# Altium footprint library Optoelectronics.PcbLib: 52 footprints (part 2 of 4)
Each footprint in its own frame and in the unit in brackets; x right, y up, seen from the top. Pads: shape width x height; smd on the part's side, far side on the other; paste and mask are expansions set on the pad; w line width, h text height; cw(c..) or ccw(c..) is an arc to the next point about the centre after c.
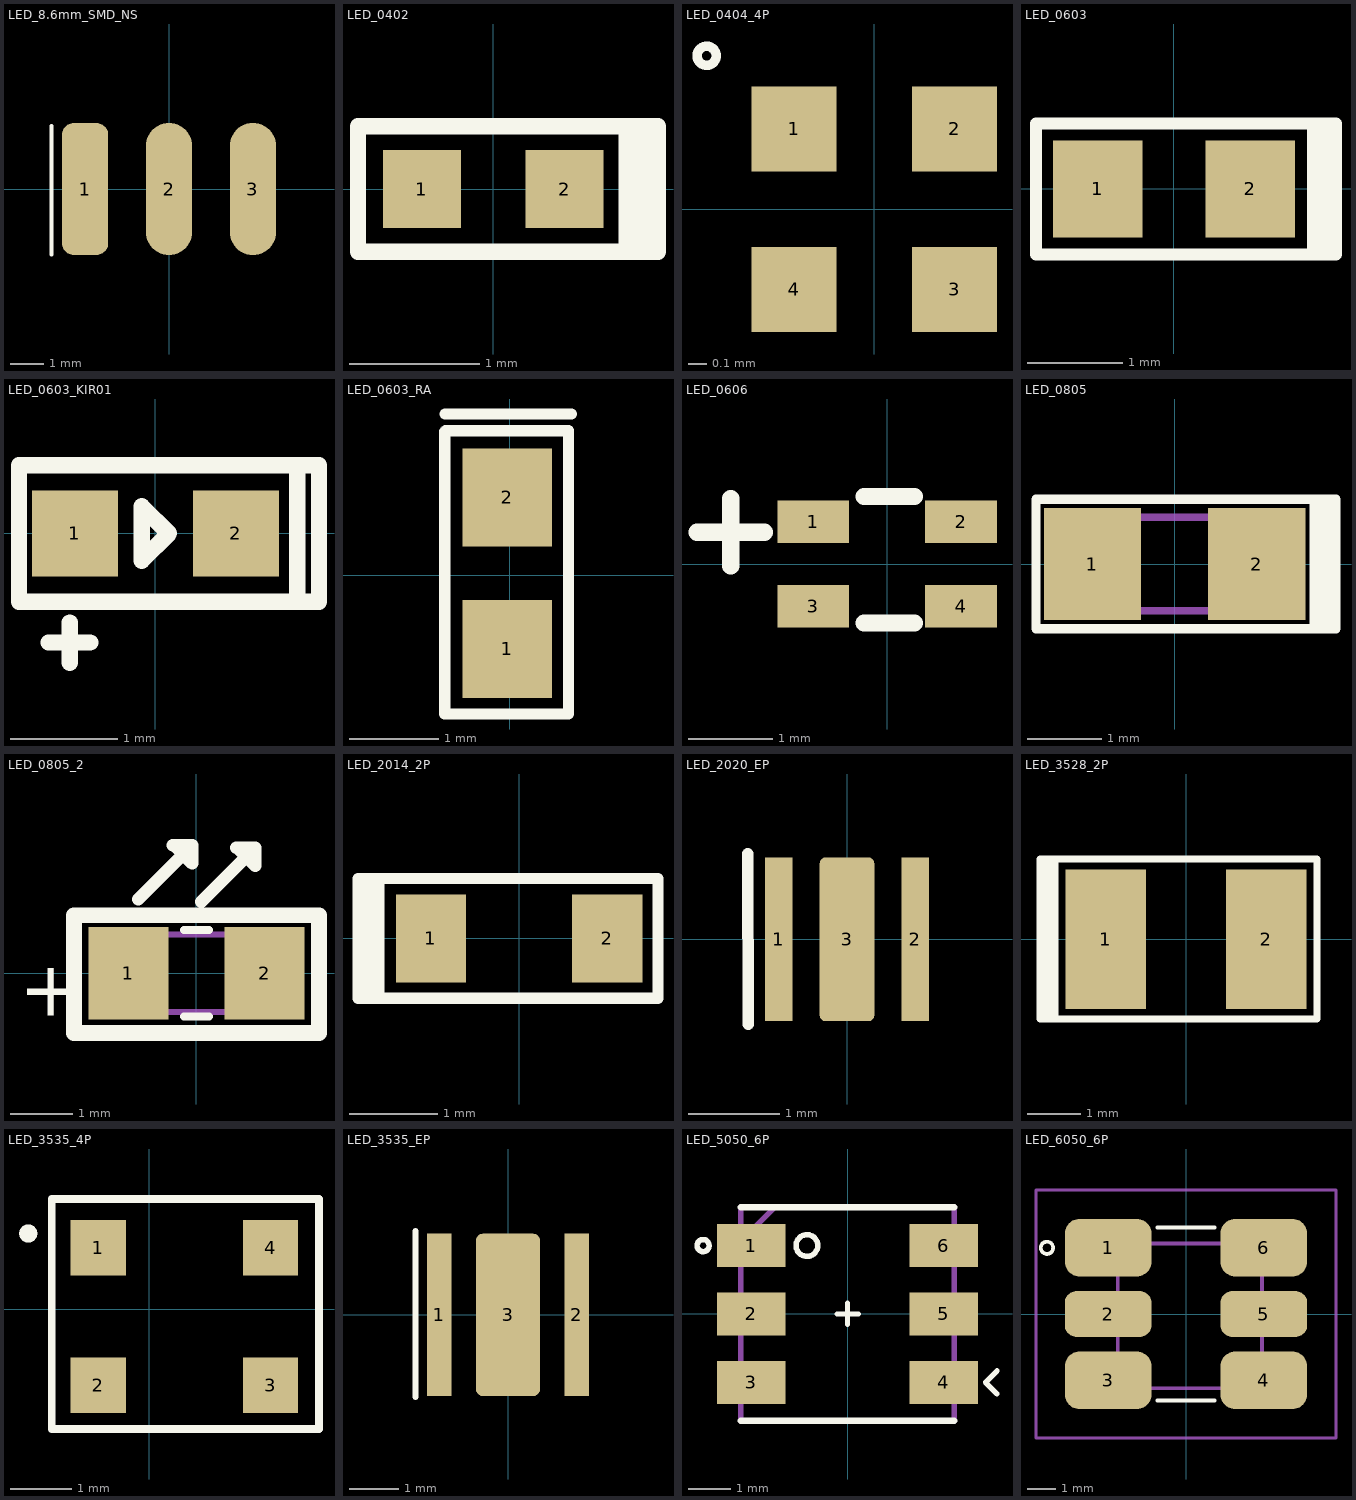
[diagram p1: the footprints below, top view; thin cyan lines are the x and y axes]

## LED_8.6mm_SMD_NS [mm] "/20201021 / J-E.Pachon"
pads (3):
  rrect50% 1.4x4 smd: 1(-2.54,0)
  oval 1.4x4 smd: 2(0,0) 3(2.54,0)
Top Overlay:
  lines w0.127: -3.556,-1.981 -3.556,1.905
3D body "LED.step": height 3, standoff -3, extent -3.188,-23.809 3.142,11.841

## LED_0402 [mm] "0402 (1005 Metric) / 20191217 / N-A.Potosi"
pads (2):
  rect 0.6x0.6 smd: 1(-0.55,0) 2(0.55,0)
Top Overlay:
  rectangle: 0.966,-0.483 1.269,0.483
  lines w0.127: -1.041,-0.483 -1.041,0.483 1.269,0.483 1.269,-0.483 -1.041,-0.483
3D body: height 0.25, standoff 0, extent -0.525,-0.25 0.475,0.25

## LED_0404_4P [mm] "20211215 / E.Naranjo"
pads (4):
  rect 0.45x0.45 smd: 1(-0.425,0.425) 2(0.425,0.425) 3(0.425,-0.425) 4(-0.425,-0.425)
Top Overlay:
  circle w0.05: c-0.889,0.813 r0.051
3D body "LED_SML-LX0404_LUM.step": height 0.38, standoff 0, extent -0.498,-0.489 0.492,0.501

## LED_0603 [mil] "1608 metric / 20190226 / H-D.Garcia"
pads (2):
  rect 37x40 smd: 1(-31.5,0) 2(31.5,0)
Top Overlay:
  rectangle: 55,-27 66.93,27
  lines w5: -57,-27 66.93,-27 66.93,27 -57,27 -57,-27
3D body "0603 LED Blue.step": height 23.62, standoff 0, extent -31.39,-15.75 32.39,15.75

## LED_0603_KIR01 [mil] "/ V-A.Patino / 20220622"
pads (2):
  rect 31.5x31.5 smd: 1(-29.53,0) 2(29.53,0)
Top Overlay:
  lines w6: -39.2,-40 -23.89,-40 ; -31.39,-47.43 -31.39,-32.64 ; 52,-25 52,25 ; -50,-25 -50,25 60,25 60,-25 -50,-25 ; -5,-10 5,0 -5,10 -5,-10
3D body "0603 LED Blue.step": height 23.62, standoff 0, extent -31.39,-15.75 32.39,15.75

## LED_0603_RA [mm] "/20220504/J-E.Pachon"
pads (2):
  rect 1x1.1 smd: 1(-0.025,-0.825) 2(-0.025,0.875)
Top Overlay:
  lines w0.127: -0.72,1.809 0.692,1.809 ; -0.727,-1.553 -0.727,1.609 -0.714,1.622 0.661,1.622 0.661,-1.548 0.656,-1.553 -0.727,-1.553
3D body "LTST-S270TBKT--3DModel-STEP-269445.STEP": height 0.61, standoff 0.01, extent -0.525,-0.774 0.625,0.876

## LED_0606 [mm] "1616 Metric  / C-A.Serna.A / 20190709"
pads (4):
  rect 0.85x0.5 smd: 1(-0.875,0.5) 2(0.875,0.5) 3(-0.875,-0.5) 4(0.875,-0.5)
Top Overlay:
  lines w0.203: -2.25,0.375 -1.45,0.375 ; -1.85,-0.025 -1.85,0.775 ; -0.275,-0.7 0.325,-0.7 ; -0.275,0.8 0.325,0.8
3D body: height 0.7, standoff 0, extent -0.8,-0.75 0.8,0.75

## LED_0805 [mm] "2012 metric / 20200123 / V-A.Patino"
pads (2):
  rect 1.3x1.5 smd: 1(-1.1,0) 2(1.1,0)
Top Overlay:
  rectangle: 1.804,-0.838 2.159,0.864
  lines w0.127: -1.854,-0.863 2.159,-0.863 2.159,0.864 0.384,0.864 -1.189,0.864 -1.854,0.864 -1.854,-0.863
Mechanical 1:
  lines w0.1: -0.7,-0.625 -0.7,0.625 ; 0.7,-0.625 0.7,0.625 ; -1,-0.625 1,-0.625 1,0.625 -1,0.625 -1,-0.625
3D body: height 1.1, standoff 0.5, extent -0.7,-0.625 0.7,0.625
3D body: height 0.5, standoff 0, extent -1,-0.625 1,0.625

## LED_0805_2 [mm] "2012 metric / 20200129 / V-A.Patino"
pads (2):
  rect 1.3x1.5 smd: 1(-1.1,0) 2(1.1,0)
Top Overlay:
  lines w0.127: -0.2,-0.7 0.2,-0.7 ; -0.2,0.7 0.2,0.7
  lines w0.203: -0.941,1.197 -0.306,1.832 ; -0.38,2.072 -0.069,2.072 -0.069,1.775 -0.366,2.072 ; 0.079,1.157 0.714,1.792 ; 0.64,2.032 0.951,2.032 0.951,1.735 0.654,2.032
  lines w0.254: -1.981,-0.965 -1.981,0.94 1.981,0.94 1.981,-0.965 -1.981,-0.965
  text "+" at -2.87,-0.686 h0.89
Mechanical 1:
  lines w0.1: -0.7,-0.625 -0.7,0.625 ; 0.7,-0.625 0.7,0.625 ; -1,-0.625 -1,0.625 1,0.625 1,-0.625 -1,-0.625
3D body: height 0.5, standoff 0, extent -1,-0.625 1,0.625
3D body: height 1.1, standoff 0.5, extent -0.7,-0.625 0.7,0.625

## LED_2014_2P [mm] "2-SMD/ 20190527/ J-P.Vargas.A"
pads (2):
  rect 0.8x1 smd: 1(-1,0) 2(1,0)
Top Overlay:
  region: -1.526,0.678 -1.829,0.678 -1.829,-0.693 -1.526,-0.693
  lines w0.127: -1.829,-0.681 1.577,-0.681 1.577,0 1.577,0.678 -1.829,0.678 -1.829,-0.681
3D body "STEP-WL-SMTW-2214-rev1.stp": height 1.24, standoff -0.07, extent -1.178,-0.697 1.122,0.703

## LED_2020_EP [mm] "0707/ 1919 Metric/ 20190527/ J-P.Vargas.A"
height 1.6
pads (3):
  rect 0.3x1.8 smd: 1(-0.75,0) 2(0.75,0)
  rrect20% 0.6x1.8 smd: 3(0,0)
Top Overlay:
  lines w0.127: -1.09,0.942 -1.087,-0.935
3D body "LUXEON_C_2020_20150108.STEP": height 1.36, standoff 0.01, extent -1,-1 1,1

## LED_3528_2P [mm] "1411/ 20190530/ J-P.Vargas.A"
pads (2):
  rect 1.5x2.6 smd: 1(-1.5,0) 2(1.5,0)
Top Overlay:
  region: -2.379,1.496 -2.682,1.496 -2.682,-1.443 -2.379,-1.443
  lines w0.127: -2.723,-1.488 -2.723,1.496 2.446,1.496 2.446,-0.869 2.446,-1.488 -2.723,-1.488
3D body "User Library-PLCC-2_VSMY3850.STEP": height 1.61, standoff -0.04, extent -1.74,-1.492 1.759,1.308

## LED_3535_4P [mm] "/20210701/J-E.Pachon"
pads (5):
  rect 0.9x0.9 smd: 1(-0.831,1.006) 2(-0.831,-1.234) 3(1.968,-1.234) 4(1.968,1.006)
  round 0.3 on Top Overlay: ""(-1.968,1.234)
Top Overlay:
  lines w0.127: -1.587,-1.941 -1.587,1.793 2.756,1.793 2.756,-1.941 2.73,-1.941 -1.587,-1.941
3D body: height 1.9, standoff 0, extent -1.587,-1.941 2.756,1.793

## LED_3535_EP [mm] "1414/3.5mmx3.5mm/ 20190527/ J-P.Vargas.A"
height 1.6
pads (3):
  rect 0.5x3.3 smd: 1(-1.4,0) 2(1.4,0)
  rrect20% 1.3x3.3 smd: 3(0,0)
Top Overlay:
  lines w0.127: -1.88,-1.669 -1.88,1.704
3D body "XTE_AWT.stp": height 2.36, standoff 0, extent -1.727,-1.707 1.723,1.743

## LED_5050_6P [mm] "5050 LED, 6lead / 20190226 / H-D.Garcia"
height 1.6
pads (6):
  rect 1.6x1 smd: 1(-2.25,1.6) 2(-2.25,0) 3(-2.25,-1.6) 4(2.25,-1.6) 5(2.25,0) 6(2.25,1.6)
Top Overlay:
  circle w0.127: c-0.95,1.6 r0.254
  circle w0.127: c-3.378,1.6 r0.141
  lines w0.127: -0.246,0 0.254,0 ; 0,-0.246 0,0.254 ; 3.495,-1.867 3.226,-1.598 3.495,-1.329
  lines w0.152: -2.5,-2.5 2.5,-2.5 ; -2.5,2.5 2.5,2.5
Mechanical 1:
  lines w0.127: -2.5,1.7 -1.7,2.5 ; -2.5,-2.5 -2.5,2.5 2.5,2.5 2.5,-2.5 -2.5,-2.5
3D body "User Library-APA102C.step": height 1.56, standoff 0.01, extent -2.75,-2.5 2.75,2.5

## LED_6050_6P [mm] "6050 LED, 6lead / 20190527/ J-P.Vargas.A"
height 1.6
pads (6):
  rrect50% 3x2 smd: 1(-2.7,2.3) 3(-2.7,-2.3) 4(2.7,-2.3) 6(2.7,2.3)
  rrect50% 3x1.6 smd: 2(-2.7,0) 5(2.7,0)
Top Overlay:
  circle w0.127: c-4.818,2.294 r0.213
  lines w0.127: -1,-3 1,-3 ; -1,3 1,3
Mechanical 1:
  lines w0.127: -2.363,1.644 -1.563,2.444 ; -2.363,-2.57 -2.363,2.444 2.637,2.444 2.637,-2.57 -2.363,-2.57
Mechanical 15:
  lines w0.1: -5.2,-4.3 5.2,-4.3 5.2,4.3 -5.2,4.3 -5.2,-4.3
3D body "User Library-smd_led_5050.STEP": height 1.6, standoff 0, extent -2.6,-2.5 2.7,2.5